# EAGLE library part AS5048A (library LARS_409_MC)
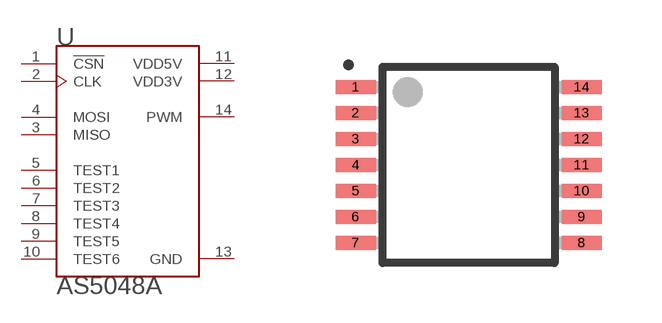
[diagram p18: symbol with the pads of SOP65P; footprint SOP65P]

Designator prefix U

## AS5048AU  [SOP65P]
1  !CSN  in
2  CLK  in
3  MISO
4  MOSI  in
5  TEST1
6  TEST2
7  TEST3
8  TEST4
9  TEST5
10  TEST6
11  VDD5V  pwr
12  VDD3V  pwr
13  GND  pas
14  PWM  out

## Footprint SOP65P (pad centres in mm)
14-SOP, 0.65 mm pitch, 6.40 mm span, 5.00 X 4.40 X 1.20 mm body 14-pin SOP package with 0.65 mm pitch, 6.40 mm span with body size 5.00 X 4.40 X 1.20 mm
smd 1 x 0.35: 1 -2.825,1.95; 2 -2.825,1.3; 3 -2.825,0.65; 4 -2.825,0; 5 -2.825,-0.65; 6 -2.825,-1.3; 7 -2.825,-1.95; 8 2.825,-1.95; 9 2.825,-1.3; 10 2.825,-0.65; 11 2.825,0; 12 2.825,0.65; 13 2.825,1.3; 14 2.825,1.95